# EAGLE library part LT1172 (library bodger)
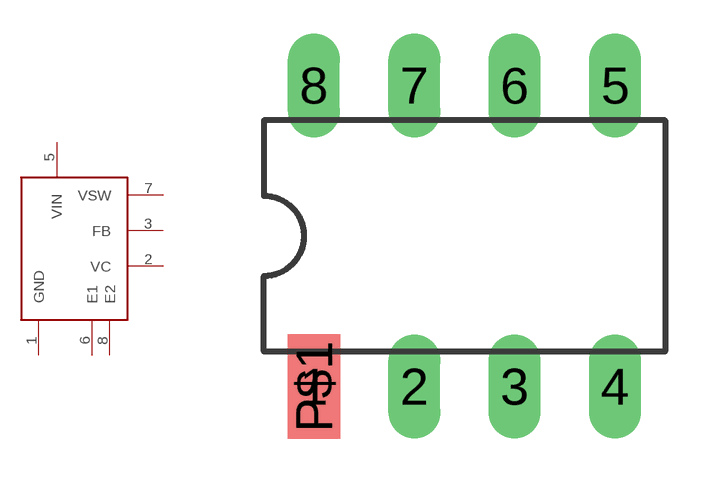
[diagram p35: symbol with the pads of DIL08; footprint DIL08]

Designator prefix -

## LT1172DIP8  [DIL08]
1  GND  pwr
2  VC  in
3  FB  in
5  VIN  pwr
6  E1  pwr
7  VSW  out
8  E2  pwr

## Footprint DIL08 (pad centres in mm)
Dual In Line Package
drill 0.813 long: 1 -3.81,-3.81; 2 -1.27,-3.81; 3 1.27,-3.81; 4 3.81,-3.81; 5 3.81,3.81; 6 1.27,3.81; 7 -1.27,3.81; 8 -3.81,3.81
smd 1.321 x 2.642: P$1 -3.81,-3.81